# EAGLE library part UC1843D8 (library lm5007)
PULSE WIDTH MODULATOR
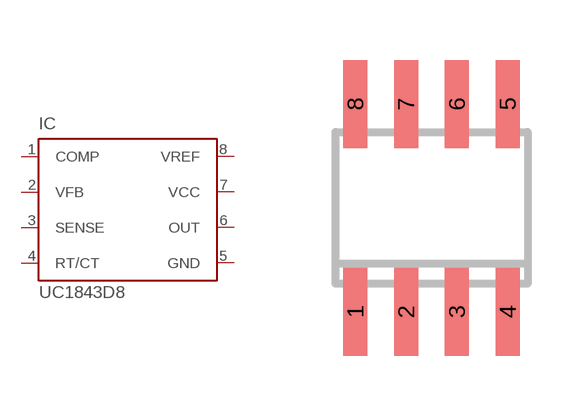
[diagram p17: symbol with the pads of SO-08; footprint SO-08]

Designator prefix IC

## UC1843D8 (MPN: UC1843AMDREP; OC_FARNELL: 1755515; OC_NEWARK: 46M1388)  [SO-08]
1  COMP  pas
2  VFB  in
3  SENSE  in
4  RT/CT  pas
5  GND  pwr
6  OUT  out
7  VCC  pwr
8  VREF  out

## Footprint SO-08 (pad centres in mm)
D (R-PDSO-G8) Plastic Small Outline Package Source: http://focus.ti.com/lit/ds/symlink/sn65als176.pdf
smd 0.6 x 2.2: 1 -1.905,-2.6; 2 -0.635,-2.6; 3 0.635,-2.6; 4 1.905,-2.6; 5 1.905,2.6; 6 0.635,2.6; 7 -0.635,2.6; 8 -1.905,2.6